# Altium footprint library Heat-Sinks.PcbLib: 58 footprints (part 2 of 4)
Each footprint in its own frame and in the unit in brackets; x right, y up, seen from the top. Pads: shape width x height; smd on the part's side, far side on the other; paste and mask are expansions set on the pad; w line width, h text height; cw(c..) or ccw(c..) is an arc to the next point about the centre after c.
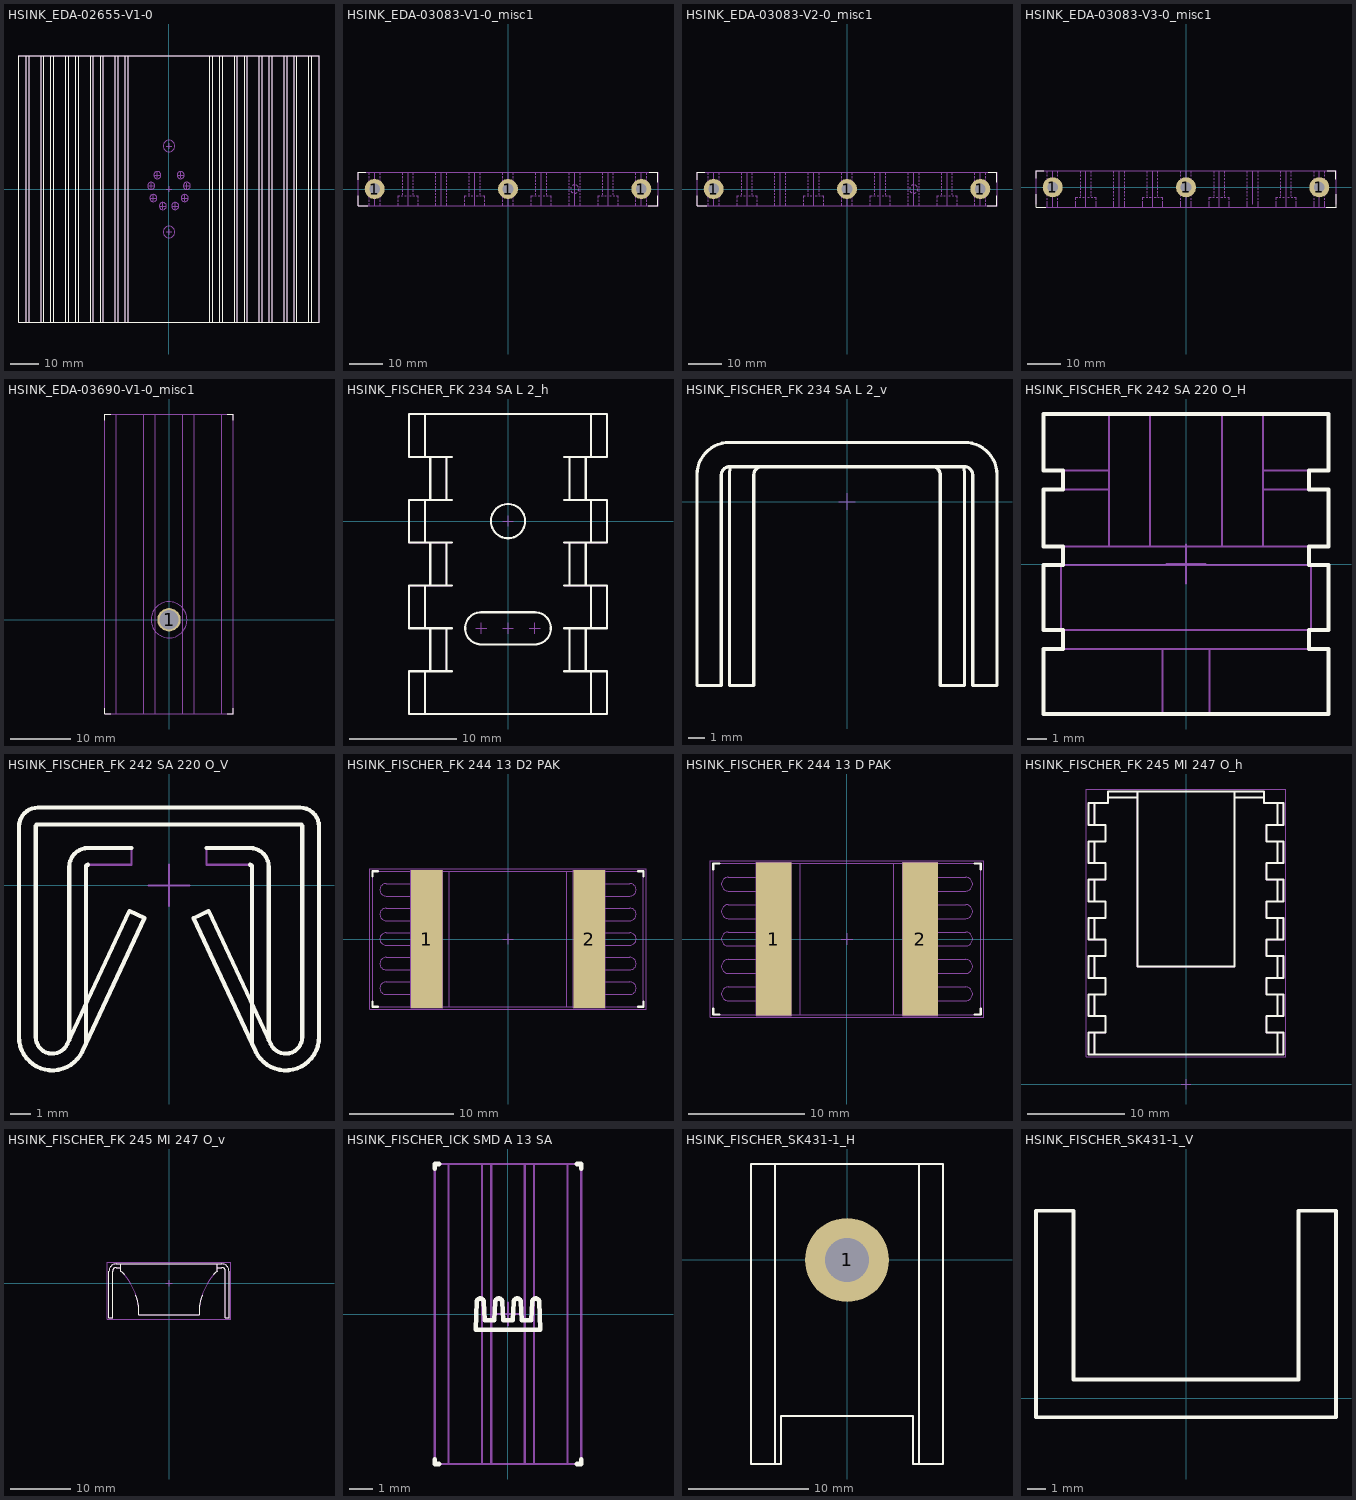
[diagram p1: the footprints below, top view; thin cyan lines are the x and y axes]

## HSINK_EDA-02655-V1-0 [mm] "FISCHER SK 73 Heatsink  for 8 Pin TO-3 Case (L=93.5mm)"
height 23
Top Overlay:
  lines w0.2: -50.1,-46.75 -50.1,46.75 ; -49.069,-46.75 -49.069,46.75 ; -44.869,-46.75 -44.869,46.75 ; -43.9,-46.75 -43.9,46.75 ; -41.4,-46.75 -41.4,46.75 ; -40.369,-46.75 -40.369,46.75 ; -36.169,-46.75 -36.169,46.75 ; -35.2,-46.75 -35.2,46.75 ; -32.7,-46.75 -32.7,46.75 ; -31.669,-46.75 -31.669,46.75 ; -27.469,-46.75 -27.469,46.75 ; -26.5,-46.75 -26.5,46.75 ; -24,-46.75 -24,46.75 ; -22.969,-46.75 -22.969,46.75 ; -18.769,-46.75 -18.769,46.75 ; -17.8,-46.75 -17.8,46.75 ; -15.3,-46.75 -15.3,46.75 ; -14.269,-46.75 -14.269,46.75 ; 14.269,-46.75 14.269,46.75 ; 15.3,-46.75 15.3,46.75 ; 17.8,-46.75 17.8,46.75 ; 18.769,-46.75 18.769,46.75 ; 22.969,-46.75 22.969,46.75 ; 24,-46.75 24,46.75 ; 26.5,-46.75 26.5,46.75 ; 27.469,-46.75 27.469,46.75 ; 31.669,-46.75 31.669,46.75 ; 32.7,-46.75 32.7,46.75 ; 35.2,-46.75 35.2,46.75 ; 36.169,-46.75 36.169,46.75 ; 40.369,-46.75 40.369,46.75 ; 41.4,-46.75 41.4,46.75 ; 43.9,-46.75 43.9,46.75 ; 44.869,-46.75 44.869,46.75 ; 49.069,-46.75 49.069,46.75 ; 50.1,-46.75 50.1,46.75 ; -52.6,-46.75 -52.6,46.75 52.6,46.75 52.6,-46.75 -52.6,-46.75
Mechanical 8:
  lines w0.1: -7.253,1.103 -6.253,1.103 ; -6.499,-3.175 -5.499,-3.175 ; -6.253,0.103 -6.253,1.103 ; -6.253,2.103 -6.253,1.103 ; -5.499,-4.175 -5.499,-3.175 ; -5.499,-2.175 -5.499,-3.175 ; -5.253,1.103 -6.253,1.103 ; -5.082,4.864 -4.082,4.864 ; -4.499,-3.175 -5.499,-3.175 ; -4.082,3.864 -4.082,4.864 ; -4.082,5.864 -4.082,4.864 ; -3.172,-5.967 -2.172,-5.967 ; -3.082,4.864 -4.082,4.864 ; -2.172,-6.967 -2.172,-5.967 ; -2.172,-4.967 -2.172,-5.967 ; -1.172,-5.967 -2.172,-5.967 ; -1,-15.075 0,-15.075 ; -1,0 0,0 ; -1,15.075 0,15.075 ; 0,-16.075 0,-15.075 ; 0,-14.075 0,-15.075 ; 0,-1 0,0 ; 0,1 0,0 ; 0,14.075 0,15.075 ; 0,16.075 0,15.075 ; 1,-15.075 0,-15.075 ; 1,0 0,0 ; 1,15.075 0,15.075 ; 1.172,-5.967 2.172,-5.967 ; 2.172,-6.967 2.172,-5.967 ; 2.172,-4.967 2.172,-5.967 ; 3.082,4.864 4.082,4.864 ; 3.172,-5.967 2.172,-5.967 ; 4.082,3.864 4.082,4.864 ; 4.082,5.864 4.082,4.864 ; 4.499,-3.175 5.499,-3.175 ; 5.082,4.864 4.082,4.864 ; 5.254,1.103 6.254,1.103 ; 5.499,-4.175 5.499,-3.175 ; 5.499,-2.175 5.499,-3.175 ; 6.254,0.103 6.254,1.103 ; 6.254,2.103 6.254,1.103 ; 6.499,-3.175 5.499,-3.175 ; 7.254,1.103 6.254,1.103
Mechanical 14:
  circle w0.1: c0,-15.075 r2.05
  circle w0.1: c0,15.075 r2.05
  circle w0.1: c-6.253,1.103 r1.25
  circle w0.1: c-5.499,-3.175 r1.25
  circle w0.1: c-2.172,-5.967 r1.25
  circle w0.1: c2.172,-5.967 r1.25
  circle w0.1: c5.499,-3.175 r1.25
  circle w0.1: c6.254,1.103 r1.25
  circle w0.1: c4.082,4.864 r1.25
  circle w0.1: c-4.082,4.864 r1.25
  lines w0.1: -50.1,-46.75 -50.1,46.75 ; -49.069,-46.75 -49.069,46.75 ; -44.869,-46.75 -44.869,46.75 ; -43.9,-46.75 -43.9,46.75 ; -41.4,-46.75 -41.4,46.75 ; -40.369,-46.75 -40.369,46.75 ; -36.169,-46.75 -36.169,46.75 ; -35.2,-46.75 -35.2,46.75 ; -32.7,-46.75 -32.7,46.75 ; -31.669,-46.75 -31.669,46.75 ; -27.469,-46.75 -27.469,46.75 ; -26.5,-46.75 -26.5,46.75 ; -24,-46.75 -24,46.75 ; -22.969,-46.75 -22.969,46.75 ; -18.769,-46.75 -18.769,46.75 ; -17.8,-46.75 -17.8,46.75 ; -15.3,-46.75 -15.3,46.75 ; -14.269,-46.75 -14.269,46.75 ; 14.269,-46.75 14.269,46.75 ; 15.3,-46.75 15.3,46.75 ; 17.8,-46.75 17.8,46.75 ; 18.769,-46.75 18.769,46.75 ; 22.969,-46.75 22.969,46.75 ; 24,-46.75 24,46.75 ; 26.5,-46.75 26.5,46.75 ; 27.469,-46.75 27.469,46.75 ; 31.669,-46.75 31.669,46.75 ; 32.7,-46.75 32.7,46.75 ; 35.2,-46.75 35.2,46.75 ; 36.169,-46.75 36.169,46.75 ; 40.369,-46.75 40.369,46.75 ; 41.4,-46.75 41.4,46.75 ; 43.9,-46.75 43.9,46.75 ; 44.869,-46.75 44.869,46.75 ; 49.069,-46.75 49.069,46.75 ; 50.1,-46.75 50.1,46.75 ; -52.6,-46.75 -52.6,46.75 52.6,46.75 52.6,-46.75 -52.6,-46.75
3D body "HSINK_EDA-02655-V1-0.stp": height 23, standoff 0, extent -52.6,-46.75 52.6,46.75

## HSINK_EDA-03083-V1-0_misc1 [mm] "Cutted and Drilled Anticorodal Flat Bar (L=90 W=10 H=22mm) for 5-Lead Plastic TO-220"
height 22
pads (3):
  round 6 hole 3.2: 1(-40,0) 1(0,0) 1(40,0)
Top Overlay:
  lines w0.2: -45,2.7 -45,5 -42.7,5 ; -44.99,-2.1 -44.99,-5 -42.09,-5 ; 42.069,-5 44.969,-5 44.969,-2.1 ; 42.369,5 44.969,5 44.969,2.1
Mechanical 8:
  circle w0.1: c40,0 r1.35
  circle w0.1: c40,0 r2.5
  circle w0.1: c0,0 r1.35
  circle w0.1: c0,0 r2.5
  lines w0.1: -40.5,0 -40,0 ; -40,-5 -40,5 ; -40,-0.5 -40,0 ; -40,0.5 -40,0 ; -39.5,0 -40,0 ; -30,-5 -30,5 ; -20,-5 -20,5 ; -10,-5 -10,5 ; -0.5,0 0,0 ; 0,-5 0,5 ; 0,-0.5 0,0 ; 0,0.5 0,0 ; 0.5,0 0,0 ; 10,-5 10,5 ; 20,-5 20,5 ; 30,-5 30,5 ; 39.5,0 40,0 ; 40,-5 40,5 ; 40,-0.5 40,0 ; 40,0.5 40,0 ; 40.5,0 40,0
Mechanical 14:
  drawing of 272 lines, arcs and shapes, not listed
3D body "HSINK_EDA-03083-V1-0_misc1.stp": height 22, standoff 0, extent -45,-5 45,5

## HSINK_EDA-03083-V2-0_misc1 [mm] "Cutted and Drilled Anticorodal Flat Bar (L=90 W=10 H=22mm) for 5-Lead Plastic TO-220"
height 22
pads (3):
  round 6 hole 3.2: 1(-40,0) 1(0,0) 1(40,0)
Top Overlay:
  lines w0.2: -45,2.7 -45,5 -42.7,5 ; -44.99,-2.1 -44.99,-5 -42.09,-5 ; 42.069,-5 44.969,-5 44.969,-2.1 ; 42.369,5 44.969,5 44.969,2.1
Mechanical 8:
  circle w0.1: c40,0 r1.35
  circle w0.1: c40,0 r2.5
  circle w0.1: c0,0 r1.35
  circle w0.1: c0,0 r2.5
  lines w0.1: -40.5,0 -40,0 ; -40,-5 -40,5 ; -40,-0.5 -40,0 ; -40,0.5 -40,0 ; -39.5,0 -40,0 ; -30,-5 -30,5 ; -20,-5 -20,5 ; -10,-5 -10,5 ; -0.5,0 0,0 ; 0,-5 0,5 ; 0,-0.5 0,0 ; 0,0.5 0,0 ; 0.5,0 0,0 ; 10,-5 10,5 ; 20,-5 20,5 ; 30,-5 30,5 ; 39.5,0 40,0 ; 40,-5 40,5 ; 40,-0.5 40,0 ; 40,0.5 40,0 ; 40.5,0 40,0
Mechanical 14:
  drawing of 272 lines, arcs and shapes, not listed
3D body "HSINK_EDA-03083-V2-0_misc1.stp": height 22, standoff 0, extent -45,-5 45,5

## HSINK_EDA-03083-V3-0_misc1 [mm] "Cutted and Drilled Anticorodal Flat Bar (L=90 W=11 H=22mm) for 5-Lead Plastic TO-220"
height 22
pads (3):
  round 6 hole 3.2: 1(-40,0) 1(0,0) 1(40,0)
Top Overlay:
  lines w0.2: -45,-2.1 -45,-6 -42.09,-6 ; -45,2.7 -45,5 -42.7,5 ; 42.069,-6 45,-6 45,-2.1 ; 42.369,5 44.969,5 44.969,2.4
Mechanical 8:
  circle w0.05: c40,0 r1.35
  circle w0.05: c40,0 r2.5
  circle w0.05: c0,0 r1.35
  circle w0.05: c0,0 r2.5
  circle w0.05: c-40,0 r1.35
  circle w0.05: c-40,0 r2.5
  lines w0.05: -40.5,0 -40,0 ; -40,-6 -40,5 ; -40,-0.5 -40,0 ; -40,0.5 -40,0 ; -39.5,0 -40,0 ; -30,-6 -30,5 ; -20,-6 -20,5 ; -10,-6 -10,5 ; -0.5,0 0,0 ; 0,-6 0,5 ; 0,-0.5 0,0 ; 0,0.5 0,0 ; 0.5,0 0,0 ; 10,-6 10,5 ; 20,-5 20,5 ; 30,-6 30,5 ; 39.5,0 40,0 ; 40,-6 40,5 ; 40,-0.5 40,0 ; 40,0.5 40,0 ; 40.5,0 40,0
Mechanical 14:
  drawing of 288 lines, arcs and shapes, not listed
3D body "HSINK_EDA-03083-V3-0_misc1.stp": height 22, standoff 0, extent -45,-6 45,5

## HSINK_EDA-03690-V1-0_misc1 [mm] "Heat Sink Drilled With M3 Hole (See EDA-03690-V1-0_misc1 Mechanical Drawaing)"
height 19
pads (1):
  round 3.9 / inner round 3.9 / far side round 6 hole 3.2: 1(0,0)
Top Overlay:
  lines w0.2: -10.725,-14.7 -10.725,-15.7 -9.725,-15.7 ; -10.725,33.3 -10.725,34.3 ; 10.725,-14.7 10.725,-15.7 ; 10.725,33.3 10.725,34.3 ; -10.725,34.3 -9.725,34.3 -10.725,34.3 ; 10.725,-15.7 9.725,-15.7 10.725,-15.7 ; 10.725,34.3 9.725,34.3 10.725,34.3
Mechanical 8:
  circle w0.1: c0,0 r3
  lines w0.1: -0.5,0 0,0 ; 0,-0.5 0,0 ; 0,0.5 0,0 ; 0.5,0 0,0
Mechanical 14:
  circle w0.1: c0,0 r1.5
  lines w0.1: -8.775,-15.7 -8.775,34.3 ; -4.225,-15.7 -4.225,34.3 ; -2.275,-15.7 -2.275,34.3 ; 2.275,-15.7 2.275,34.3 ; 4.225,-15.7 4.225,34.3 ; 8.775,-15.7 8.775,34.3 ; 10.725,-15.7 10.725,34.3 ; 10.725,-15.7 -10.725,-15.7 -10.725,34.3 10.725,34.3 ; 10.725,-15.7 10.725,34.3
3D body "HSINK_EDA-03690-V1-0_misc1.stp": height 19, standoff 0, extent -10.725,-15.7 10.725,34.3

## HSINK_FISCHER_FK 234 SA L 2_h [mm] "SOT-32 Heat Sink  Rth: 17°C/W - Horizontal Mount"
height 15
Top Overlay:
  circle w0.2: c0,0 r1.6
  lines w0.2: -7.75,-18 -7.75,-14.01 ; -7.75,-10 -7.75,-6.01 ; -7.75,-2 -7.75,1.99 ; -7.75,6 -7.75,10 ; -7.25,-14.01 -7.25,-10 ; -7.25,-6.01 -7.25,-2 ; -7.25,1.99 -7.25,6 ; -5.75,-14.01 -5.75,-10 ; -5.75,-6.01 -5.75,-2 ; -5.75,1.99 -5.75,6 ; -5.24,-14.01 -9.25,-14.01 -9.25,-18 9.25,-18 9.25,-14.01 5.24,-14.01 ; -5.24,-10 -9.25,-10 -9.25,-6.01 -5.24,-6.01 ; -5.24,-2 -9.25,-2 -9.25,1.99 -5.24,1.99 ; -5.24,6 -9.25,6 -9.25,10 9.25,10 9.25,6 5.24,6 ; 5.24,-10 9.25,-10 9.25,-6.01 5.24,-6.01 ; 5.24,-2 9.25,-2 9.25,1.99 5.24,1.99 ; 5.75,-14.01 5.75,-10 ; 5.75,-6.01 5.75,-2 ; 5.75,1.99 5.75,6 ; 7.25,-14.01 7.25,-10 ; 7.25,-6.01 7.25,-2 ; 7.25,1.99 7.25,6 ; 7.75,-18 7.75,-14.01 ; 7.75,-10 7.75,-6.01 ; 7.75,-2 7.75,1.99 ; 7.75,6 7.75,10 ; -2.5,-11.5 cw(c-2.5,-10) -2.5,-8.5 2.5,-8.5 cw(c2.5,-10) 2.5,-11.5 -2.5,-11.5
Mechanical 8:
  lines w0.1: -3,-10 -2.5,-10 ; -2.5,-10.5 -2.5,-10 ; -2.5,-9.5 -2.5,-10 ; -2,-10 -2.5,-10 ; -0.5,-10 0,-10 ; -0.5,0 0,0 ; 0,-10.5 0,-10 ; 0,-9.5 0,-10 ; 0,-0.5 0,0 ; 0,0.5 0,0 ; 0.5,-10 0,-10 ; 0.5,0 0,0 ; 2,-10 2.5,-10 ; 2.5,-10.5 2.5,-10 ; 2.5,-9.5 2.5,-10 ; 3,-10 2.5,-10
Mechanical 14:
  circle w0.1: c0,0 r1.6
  lines w0.1: -7.75,-18 -7.75,-14.01 ; -7.75,-10 -7.75,-6.01 ; -7.75,-2 -7.75,1.99 ; -7.75,6 -7.75,10 ; -7.25,-14.01 -7.25,-10 ; -7.25,-6.01 -7.25,-2 ; -7.25,1.99 -7.25,6 ; -5.75,-14.01 -5.75,-10 ; -5.75,-6.01 -5.75,-2 ; -5.75,1.99 -5.75,6 ; -5.24,-14.01 -9.25,-14.01 -9.25,-18 9.25,-18 9.25,-14.01 5.24,-14.01 ; -5.24,-10 -9.25,-10 -9.25,-6.01 -5.24,-6.01 ; -5.24,-2 -9.25,-2 -9.25,1.99 -5.24,1.99 ; -5.24,6 -9.25,6 -9.25,10 9.25,10 9.25,6 5.24,6 ; 5.24,-10 9.25,-10 9.25,-6.01 5.24,-6.01 ; 5.24,-2 9.25,-2 9.25,1.99 5.24,1.99 ; 5.75,-14.01 5.75,-10 ; 5.75,-6.01 5.75,-2 ; 5.75,1.99 5.75,6 ; 7.25,-14.01 7.25,-10 ; 7.25,-6.01 7.25,-2 ; 7.25,1.99 7.25,6 ; 7.75,-18 7.75,-14.01 ; 7.75,-10 7.75,-6.01 ; 7.75,-2 7.75,1.99 ; 7.75,6 7.75,10 ; -2.5,-11.5 cw(c-2.5,-10) -2.5,-8.5 2.5,-8.5 cw(c2.5,-10) 2.5,-11.5 -2.5,-11.5
3D body "HSINK_FISCHER_FK 234 SA L 2_h.stp": height 15, standoff 0, extent -9.25,-18 9.25,10

## HSINK_FISCHER_FK 234 SA L 2_v [mm] "SOT-32 Heat Sink  Rth: 17°C/W - Vertical Mount"
height 28
Top Overlay:
  lines w0.2: -7.186,2.15 ccw(c-5.25,1.65) -7.25,1.65 -7.25,-11.35 -5.75,-11.35 -5.75,1.65 cw(c-5.25,1.65) -5.25,2.15 ; 5.25,2.15 cw(c5.25,1.65) 5.75,1.65 5.75,-11.35 7.25,-11.35 7.25,1.65 ccw(c5.25,1.65) 7.186,2.15 ; -9.25,-11.35 -7.75,-11.35 -7.75,1.65 cw(c-7.25,1.65) -7.25,2.15 7.25,2.15 cw(c7.25,1.65) 7.75,1.65 7.75,-11.35 9.25,-11.35 9.25,1.65 ccw(c7.25,1.65) 7.25,3.65 -7.25,3.65 ccw(c-7.25,1.65) -9.25,1.65 -9.25,-11.35
Mechanical 8:
  lines w0.05: -0.5,0 0,0 ; 0,-0.5 0,0 ; 0,0.5 0,0 ; 0.5,0 0,0
Mechanical 14:
  lines w0.1: -7.186,2.15 ccw(c-5.25,1.65) -7.25,1.65 -7.25,-11.35 -5.75,-11.35 -5.75,1.65 cw(c-5.25,1.65) -5.25,2.15 ; 5.25,2.15 cw(c5.25,1.65) 5.75,1.65 5.75,-11.35 7.25,-11.35 7.25,1.65 ccw(c5.25,1.65) 7.186,2.15 ; -9.25,-11.35 -7.75,-11.35 -7.75,1.65 cw(c-7.25,1.65) -7.25,2.15 7.25,2.15 cw(c7.25,1.65) 7.75,1.65 7.75,-11.35 9.25,-11.35 9.25,1.65 ccw(c7.25,1.65) 7.25,3.65 -7.25,3.65 ccw(c-7.25,1.65) -9.25,1.65 -9.25,-11.35
3D body "HSINK_FISCHER_FK 234 SA L 2_v.stp": height 28.08, standoff 0.08, extent -9.25,-11.35 9.25,3.65

## HSINK_FISCHER_FK 242 SA 220 O_H [mm] "TO-220 Heat Sink  Rth: 26°C/W - Horizontal Mount"
height 15.24
Top Overlay:
  lines w0.2: -7.25,-7.62 7.25,-7.62 7.25,-4.32 6.25,-4.32 6.25,-3.36 7.25,-3.36 7.25,-0.06 6.25,-0.06 6.25,0.9 7.25,0.9 7.25,3.78 6.25,3.78 6.25,4.74 7.25,4.74 7.25,7.62 -7.25,7.62 -7.25,4.74 -6.25,4.74 -6.25,3.78 -7.25,3.78 -7.25,0.9 -6.25,0.9 -6.25,-0.06 -7.25,-0.06 -7.25,-3.36 -6.25,-3.36 -6.25,-4.32 -7.25,-4.32 -7.25,-7.62
Mechanical 8:
  lines w0.1: -1,0 0,0 ; 0,-1 0,0 ; 0,1 0,0 ; 1,0 0,0
Mechanical 14:
  lines w0.1: -6.34,-3.36 -6.34,-0.06 ; -6.25,-4.32 -6.25,-3.36 ; -6.25,-0.06 -6.25,0.9 ; -6.25,3.78 -6.25,4.74 ; -3.91,0.9 -3.91,7.62 ; -3.91,3.78 -7.25,3.78 -7.25,0.9 7.25,0.9 7.25,3.78 3.91,3.78 ; -3.91,4.74 -7.25,4.74 -7.25,7.62 7.25,7.62 7.25,4.74 3.91,4.74 ; -1.82,0.9 -1.82,7.62 ; -1.183,-7.62 -1.183,-4.32 ; 1.183,-7.62 1.183,-4.32 ; 1.82,0.9 1.82,7.62 ; 3.91,0.9 3.91,7.62 ; 6.25,-4.32 6.25,-3.36 ; 6.25,-0.06 6.25,0.9 ; 6.25,3.78 6.25,4.74 ; 6.34,-3.36 6.34,-0.06 ; -7.25,-7.62 7.25,-7.62 7.25,-4.32 -7.25,-4.32 -7.25,-7.62 ; -7.25,-3.36 -7.25,-0.06 7.25,-0.06 7.25,-3.36 -7.25,-3.36
3D body "HSINK_FISCHER_FK 242 SA 220 O_H.stp": height 12.71, standoff 0, extent -7.25,-7.62 7.25,7.62

## HSINK_FISCHER_FK 242 SA 220 O_V [mm] "TO-220 Heat Sink  Rth: 26°C/W - Vertical Mount"
height 15.24
Top Overlay:
  lines w0.2: -4.82,-7.464 -4.82,0.9 cw(c-3.91,0.9) -3.91,1.81 -1.82,1.81 ; -4.01,-7.644 -4.01,0.9 cw(c-3.91,0.9) -3.91,1 ; 1.82,1.81 3.91,1.81 cw(c3.91,0.9) 4.82,0.9 4.82,-7.464 ; 3.91,1 cw(c3.91,0.9) 4.01,0.9 4.01,-7.644 ; -7.25,-7.33 ccw(c-5.64,-7.33) -4.181,-8.01 -1.183,-1.582 -1.917,-1.24 -4.915,-7.668 cw(c-5.64,-7.33) -6.44,-7.33 -6.44,2.85 cw(c-6.34,2.85) -6.34,2.95 6.34,2.95 cw(c6.34,2.85) 6.44,2.85 6.44,-7.33 cw(c5.64,-7.33) 4.915,-7.668 1.917,-1.24 1.183,-1.582 4.181,-8.01 ccw(c5.64,-7.33) 7.25,-7.33 7.25,2.85 ccw(c6.34,2.85) 6.34,3.76 -6.34,3.76 ccw(c-6.34,2.85) -7.25,2.85 -7.25,-7.33
Mechanical 8:
  lines w0.1: -1,0 0,0 ; 0,-1 0,0 ; 0,1 0,0 ; 1,0 0,0
Mechanical 14:
  lines w0.1: -4.82,-7.464 -4.82,0.9 cw(c-3.91,0.9) -3.91,1.81 -1.82,1.81 -1.82,1 -3.91,1 ccw(c-3.91,0.9) -4.01,0.9 -4.01,-7.644 ; 4.01,-7.644 4.01,0.9 ccw(c3.91,0.9) 3.91,1 1.82,1 1.82,1.81 3.91,1.81 cw(c3.91,0.9) 4.82,0.9 4.82,-7.464 ; -7.25,-7.33 ccw(c-5.64,-7.33) -4.181,-8.01 -1.183,-1.582 -1.917,-1.24 -4.915,-7.668 cw(c-5.64,-7.33) -6.44,-7.33 -6.44,2.85 cw(c-6.34,2.85) -6.34,2.95 6.34,2.95 cw(c6.34,2.85) 6.44,2.85 6.44,-7.33 cw(c5.64,-7.33) 4.915,-7.668 1.917,-1.24 1.183,-1.582 4.181,-8.01 ccw(c5.64,-7.33) 7.25,-7.33 7.25,2.85 ccw(c6.34,2.85) 6.34,3.76 -6.34,3.76 ccw(c-6.34,2.85) -7.25,2.85 -7.25,-7.33
3D body "HSINK_FISCHER_FK 242 SA 220 O_V.stp": height 20.62, standoff 5.38, extent -7.25,-8.95 7.25,3.76

## HSINK_FISCHER_FK 244 13 D2 PAK [mm] "22.8°C/W SMD Heatsink for D2PAK, Case, Body L26 x W13 x H10mm"
height 10
pads (2):
  rect 3.05x13.2 smd: 1(-7.8,0) 2(7.8,0)
Top Overlay:
  lines w0.2: -13.001,-6 -13.001,-6.5 -12.501,-6.5 ; -13.001,6 -13.001,6.5 -12.501,6.5 ; 12.501,-6.5 13.001,-6.5 13.001,-6 ; 12.501,6.5 13.001,6.5 13.001,6
Mechanical 8:
  lines w0.1: -8.3,0 -7.8,0 ; -7.8,-0.5 -7.8,0 ; -7.8,0.5 -7.8,0 ; -7.3,0 -7.8,0 ; -0.5,0 0,0 ; 0,-0.5 0,0 ; 0,0.5 0,0 ; 0.5,0 0,0 ; 7.3,0 7.8,0 ; 7.8,-0.5 7.8,0 ; 7.8,0.5 7.8,0 ; 8.3,0 7.8,0 ; -9.325,-6.6 -6.275,-6.6 -6.275,6.6 -9.325,6.6 -9.325,-6.6 ; 6.275,-6.6 9.325,-6.6 9.325,6.6 6.275,6.6 6.275,-6.6
Mechanical 14:
  lines w0.1: -5.65,-6.5 -5.65,6.5 ; 5.65,-6.5 5.65,6.5 ; -13.001,-6.5 -13.001,6.5 13.001,6.5 13.001,-6.5 -13.001,-6.5 ; -11.7,-5.32 cw(c-11.7,-4.72) -11.7,-4.12 -8.2,-4.12 cw(c-8.2,-4.72) -8.2,-5.32 -11.7,-5.32 ; -11.7,-2.96 cw(c-11.7,-2.36) -11.7,-1.76 -8.2,-1.76 cw(c-8.2,-2.36) -8.2,-2.96 -11.7,-2.96 ; -11.7,-0.6 cw(c-11.7,0) -11.7,0.6 -8.2,0.6 cw(c-8.2,0) -8.2,-0.6 -11.7,-0.6 ; -11.7,1.76 cw(c-11.7,2.36) -11.7,2.96 -8.2,2.96 cw(c-8.2,2.36) -8.2,1.76 -11.7,1.76 ; -11.7,4.12 cw(c-11.7,4.72) -11.7,5.32 -8.2,5.32 cw(c-8.2,4.72) -8.2,4.12 -11.7,4.12 ; 8.2,-5.32 cw(c8.2,-4.72) 8.2,-4.12 11.7,-4.12 cw(c11.7,-4.72) 11.7,-5.32 8.2,-5.32 ; 8.2,-2.96 cw(c8.2,-2.36) 8.2,-1.76 11.7,-1.76 cw(c11.7,-2.36) 11.7,-2.96 8.2,-2.96 ; 8.2,-0.6 cw(c8.2,0) 8.2,0.6 11.7,0.6 cw(c11.7,0) 11.7,-0.6 8.2,-0.6 ; 8.2,1.76 cw(c8.2,2.36) 8.2,2.96 11.7,2.96 cw(c11.7,2.36) 11.7,1.76 8.2,1.76 ; 8.2,4.12 cw(c8.2,4.72) 8.2,5.32 11.7,5.32 cw(c11.7,4.72) 11.7,4.12 8.2,4.12
Mechanical 15:
  lines w0.05: -13.251,-6.75 -13.251,6.75 13.251,6.75 13.251,-6.75 -13.251,-6.75
3D body "HSINK_FISCHER_FK 244 13 D2 PAK.stp": height 10, standoff 0, extent -13.001,-6.5 13.001,6.5

## HSINK_FISCHER_FK 244 13 D PAK [mm] "25°C/W  SMD Heatsink for DPAK Case, Body L23 x W13 x H10mm"
height 28
pads (2):
  rect 3.05x13.2 smd: 1(-6.3,0) 2(6.3,0)
Top Overlay:
  lines w0.2: -11.5,-6 -11.5,-6.5 -11,-6.5 ; -11.5,6 -11.5,6.5 -11,6.5 ; 11,-6.5 11.5,-6.5 11.5,-6 ; 11,6.5 11.5,6.5 11.5,6
Mechanical 8:
  lines w0.1: -6.8,0 -6.3,0 ; -6.3,-0.5 -6.3,0 ; -6.3,0.5 -6.3,0 ; -5.8,0 -6.3,0 ; -0.5,0 0,0 ; 0,-0.5 0,0 ; 0,0.5 0,0 ; 0.5,0 0,0 ; 5.8,0 6.3,0 ; 6.3,-0.5 6.3,0 ; 6.3,0.5 6.3,0 ; 6.8,0 6.3,0 ; -7.825,-6.6 -4.775,-6.6 -4.775,6.6 -7.825,6.6 -7.825,-6.6 ; 4.775,-6.6 7.825,-6.6 7.825,6.6 4.775,6.6 4.775,-6.6
Mechanical 14:
  lines w0.1: -4,-6.5 -4,6.5 ; 4,-6.5 4,6.5 ; -11.5,-6.5 -11.5,6.5 11.5,6.5 11.5,-6.5 -11.5,-6.5 ; -10.2,-5.32 cw(c-10.2,-4.72) -10.2,-4.12 -6.7,-4.12 cw(c-6.7,-4.72) -6.7,-5.32 -10.2,-5.32 ; -10.2,-2.96 cw(c-10.2,-2.36) -10.2,-1.76 -6.7,-1.76 cw(c-6.7,-2.36) -6.7,-2.96 -10.2,-2.96 ; -10.2,-0.6 cw(c-10.2,0) -10.2,0.6 -6.7,0.6 cw(c-6.7,0) -6.7,-0.6 -10.2,-0.6 ; -10.2,1.76 cw(c-10.2,2.36) -10.2,2.96 -6.7,2.96 cw(c-6.7,2.36) -6.7,1.76 -10.2,1.76 ; -10.2,4.12 cw(c-10.2,4.72) -10.2,5.32 -6.7,5.32 cw(c-6.7,4.72) -6.7,4.12 -10.2,4.12 ; 6.7,-5.32 cw(c6.7,-4.72) 6.7,-4.12 10.2,-4.12 cw(c10.2,-4.72) 10.2,-5.32 6.7,-5.32 ; 6.7,-2.96 cw(c6.7,-2.36) 6.7,-1.76 10.2,-1.76 cw(c10.2,-2.36) 10.2,-2.96 6.7,-2.96 ; 6.7,-0.6 cw(c6.7,0) 6.7,0.6 10.2,0.6 cw(c10.2,0) 10.2,-0.6 6.7,-0.6 ; 6.7,1.76 cw(c6.7,2.36) 6.7,2.96 10.2,2.96 cw(c10.2,2.36) 10.2,1.76 6.7,1.76 ; 6.7,4.12 cw(c6.7,4.72) 6.7,5.32 10.2,5.32 cw(c10.2,4.72) 10.2,4.12 6.7,4.12
Mechanical 15:
  lines w0.05: -11.75,-6.75 -11.75,6.75 11.75,6.75 11.75,-6.75 -11.75,-6.75
3D body "HSINK_FISCHER_FK 244 13 D PAK.stp": height 10, standoff 0, extent -11.5,-6.5 11.5,6.5

## HSINK_FISCHER_FK 245 MI 247 O_h [mm] "TO-247 Heat Sink  Rth: 20.2°C/W - Horizontal Mount"
height 9
Top Overlay:
  lines w0.2: -9.4,3.06 -9.4,5.289 ; -9.4,6.989 -9.4,9.217 ; -9.4,10.917 -9.4,13.146 ; -9.4,14.846 -9.4,17.074 ; -9.4,18.774 -9.4,21.003 ; -9.4,22.703 -9.4,24.931 ; -9.4,26.631 -9.4,28.86 ; -8,29.46 -5,29.46 ; -5,17.955 -4.999,17.955 ; -5,18.176 -4.999,18.176 ; -5,30.06 -5,12.06 5,12.06 5,30.06 ; 4.999,17.955 5,17.955 ; 4.999,18.176 5,18.176 ; 5,29.46 8,29.46 ; 9.4,3.06 9.4,5.289 ; 9.4,6.989 9.4,9.217 ; 9.4,10.917 9.4,13.146 ; 9.4,14.846 9.4,17.074 ; 9.4,18.774 9.4,21.003 ; 9.4,22.703 9.4,24.931 ; 9.4,26.631 9.4,28.86 ; -10,3.06 10,3.06 10,5.289 8.25,5.289 8.25,6.989 10,6.989 10,9.217 8.25,9.217 8.25,10.917 10,10.917 10,13.146 8.25,13.146 8.25,14.846 10,14.846 10,17.074 8.25,17.074 8.25,18.774 10,18.774 10,21.003 8.25,21.003 8.25,22.703 10,22.703 10,24.931 8.25,24.931 8.25,26.631 10,26.631 10,28.86 8,28.86 8,30.06 -8,30.06 -8,28.86 -10,28.86 -10,26.631 -8.25,26.631 -8.25,24.931 -10,24.931 -10,22.703 -8.25,22.703 -8.25,21.003 -10,21.003 -10,18.774 -8.25,18.774 -8.25,17.074 -10,17.074 -10,14.846 -8.25,14.846 -8.25,13.146 -10,13.146 -10,10.917 -8.25,10.917 -8.25,9.217 -10,9.217 -10,6.989 -8.25,6.989 -8.25,5.289 -10,5.289 -10,3.06
Mechanical 8:
  lines w0.05: -0.5,0 0,0 ; 0,-0.5 0,0 ; 0,0.5 0,0 ; 0.5,0 0,0
Mechanical 14:
  lines w0.1: -9.4,3.06 -9.4,5.289 ; -9.4,6.989 -9.4,9.217 ; -9.4,10.917 -9.4,13.146 ; -9.4,14.846 -9.4,17.074 ; -9.4,18.774 -9.4,21.003 ; -9.4,22.703 -9.4,24.931 ; -9.4,26.631 -9.4,28.86 ; -8,29.46 -5,29.46 ; -5,17.955 -4.999,17.955 ; -5,18.176 -4.999,18.176 ; -5,30.06 -5,12.06 5,12.06 5,30.06 ; 4.999,17.955 5,17.955 ; 4.999,18.176 5,18.176 ; 5,29.46 8,29.46 ; 9.4,3.06 9.4,5.289 ; 9.4,6.989 9.4,9.217 ; 9.4,10.917 9.4,13.146 ; 9.4,14.846 9.4,17.074 ; 9.4,18.774 9.4,21.003 ; 9.4,22.703 9.4,24.931 ; 9.4,26.631 9.4,28.86 ; -10,3.06 10,3.06 10,5.289 8.25,5.289 8.25,6.989 10,6.989 10,9.217 8.25,9.217 8.25,10.917 10,10.917 10,13.146 8.25,13.146 8.25,14.846 10,14.846 10,17.074 8.25,17.074 8.25,18.774 10,18.774 10,21.003 8.25,21.003 8.25,22.703 10,22.703 10,24.931 8.25,24.931 8.25,26.631 10,26.631 10,28.86 8,28.86 8,30.06 -8,30.06 -8,28.86 -10,28.86 -10,26.631 -8.25,26.631 -8.25,24.931 -10,24.931 -10,22.703 -8.25,22.703 -8.25,21.003 -10,21.003 -10,18.774 -8.25,18.774 -8.25,17.074 -10,17.074 -10,14.846 -8.25,14.846 -8.25,13.146 -10,13.146 -10,10.917 -8.25,10.917 -8.25,9.217 -10,9.217 -10,6.989 -8.25,6.989 -8.25,5.289 -10,5.289 -10,3.06
Mechanical 15:
  lines w0.05: -10.25,2.81 -10.25,30.31 10.25,30.31 10.25,2.81 -10.25,2.81
3D body "HSINK_FISCHER_FK 245 MI 247 O_h.stp": height 9, standoff 0, extent -10,3.06 10,30.06

## HSINK_FISCHER_FK 245 MI 247 O_v [mm] "TO-247 Heat Sink  Rth: 20.2°C/W - Vertical Mount"
height 27
Top Overlay:
  lines w0.2: -8,2.6 -8.8,2.6 ccw(c-8.8,2) -9.4,2 -9.4,-5.8 -10,-5.8 -10,2 cw(c-8.8,2) -8.8,3.2 8.8,3.2 cw(c8.8,2) 10,2 10,-5.8 9.4,-5.8 9.4,2 ccw(c8.8,2) 8.8,2.6 8,2.6 ; -8,3.2 -8,2 cw(c-14.999,-5.143) -7.414,1.374 ; -5.505,-2.001 cw(c-14.999,-5.143) -5,-5.3 5,-5.3 cw(c14.999,-5.143) 5.505,-2.001 ; 7.414,1.374 cw(c14.999,-5.143) 8,2 8,3.2
Mechanical 8:
  lines w0.05: -0.5,0 0,0 ; 0,-0.5 0,0 ; 0,0.5 0,0 ; 0.5,0 0,0
Mechanical 14:
  lines w0.1: -8,2.6 -8.8,2.6 ccw(c-8.8,2) -9.4,2 -9.4,-5.8 -10,-5.8 -10,2 cw(c-8.8,2) -8.8,3.2 8.8,3.2 cw(c8.8,2) 10,2 10,-5.8 9.4,-5.8 9.4,2 ccw(c8.8,2) 8.8,2.6 8,2.6 ; -8,3.2 -8,2 cw(c-14.999,-5.143) -5,-5.3 5,-5.3 cw(c14.999,-5.143) 8,2 8,3.2
Mechanical 15:
  lines w0.05: -10.25,-6.05 10.25,-6.05 10.25,3.45 -10.25,3.45 -10.25,-6.05
3D body "HSINK_FISCHER_FK 245 MI 247 O_v.stp": height 27, standoff 0, extent -10,-5.8 10,3.2

## HSINK_FISCHER_ICK SMD A 13 SA [mm] "Rth: 63K/W - L 13mm x W 6.3mm x H 4.8mm Black Anodized Heatsinks"
height 4.8
Top Overlay:
  lines w0.2: -3.175,-6.3 -3.175,-6.5 -2.975,-6.5 ; -3.175,6.3 -3.175,6.5 -2.975,6.5 ; 2.975,-6.5 3.175,-6.5 3.175,-6.3 ; 2.975,6.5 3.175,6.5 3.175,6.3 ; -1.4,-0.675 -1.35,0.525 cw(c-1.2,0.525) -1.05,0.525 -1,-0.275 -0.6,-0.275 -0.55,0.525 cw(c-0.4,0.525) -0.25,0.525 -0.2,-0.275 0.2,-0.275 0.25,0.525 cw(c0.4,0.525) 0.55,0.525 0.6,-0.275 1,-0.275 1.05,0.525 cw(c1.2,0.525) 1.35,0.525 1.4,-0.675 -1.4,-0.675
Mechanical 8:
  lines w0.1: -0.5,0 0,0 ; 0,-0.5 0,0 ; 0,0.5 0,0 ; 0.5,0 0,0
Mechanical 14:
  lines w0.1: -2.576,-6.5 -2.576,6.5 ; -1.127,-6.5 -1.127,6.5 ; -0.728,-6.5 -0.728,6.5 ; 0.728,-6.5 0.728,6.5 ; 1.127,-6.5 1.127,6.5 ; 2.576,-6.5 2.576,6.5 ; -3.175,-6.5 3.175,-6.5 3.175,6.5 -3.175,6.5 -3.175,-6.5
3D body "HSINK_FISCHER_ICK SMD A 13 SA.stp": height 4.8, standoff 0, extent -3.175,-6.5 3.175,6.5

## HSINK_FISCHER_SK431-1_H [mm] "Heat Sink  Rth: 18°C/W Tmax: 200°C - Horizontal  Mount"
height 11
pads (1):
  round 7 hole 3.7: 1(0,0)
Top Overlay:
  lines w0.2: -6,-17 -6,8 ; 6,-17 6,8 ; -8,-17 -5.5,-17 -5.5,-13 5.5,-13 5.5,-17 8,-17 8,8 -8,8 -8,-17
Mechanical 14:
  lines w0.1: -6,-17 -6,8 ; 6,-17 6,8 ; -8,-17 -5.5,-17 -5.5,-13 5.5,-13 5.5,-17 8,-17 8,8 -8,8 -8,-17
3D body "HSINK_FISCHER_SK431-1_H.stp": height 11, standoff 0, extent -8,-17 8,8

## HSINK_FISCHER_SK431-1_V [mm] "Heat Sink  Rth: 18°C/W Tmax: 200°C - Vertical Mount"
height 25
Top Overlay:
  lines w0.2: -8,-1 -8,10 -6,10 -6,1 6,1 6,10 8,10 8,-1 -8,-1
Mechanical 14:
  lines w0.1: -8,-1 -8,10 -6,10 -6,1 ; 6,1 6,10 8,10 8,-1
3D body "HSINK_FISCHER_SK431-1_V.stp": height 25, standoff 0, extent -8,-1 8,10